# Altium schematic symbol library 正弦波振荡器电路设计.SCHLIB: 6 symbols
Pins are listed as number, name and electrical type; pins without a type are passive.

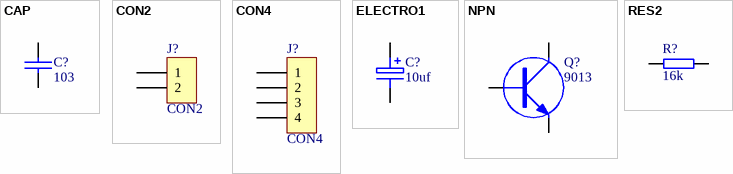
[diagram p0: symbols CAP to RES2]

## CAP
designator C?, comment 103
Capacitor
footprint RAD0.1
footprint RAD0.2
footprint R/C0805
footprint R/C1206
footprint R/C0805
pins: 1, 2

## CON2
designator J?
Connector
footprint SIP2
footprint 5.08-S201
pins: 1, 2

## CON4
designator J?
Connector
footprint SIP4
pins: 1, 2, 3, 4

## ELECTRO1
designator C?, comment 10uf
Electrolytic Capacitor
footprint RB.1/.2
footprint RB.2/.4
pins: 1, 2

## NPN
designator Q?, comment 9013
footprint TO-92C
footprint TO-92D
footprint TO-39A
pins: B, C, E

## RES2
designator R?, comment 16k
footprint AXIAL0.3
footprint AXIAL0.4
footprint AXIAL0.1
footprint AXIAL1.0
footprint R/C0805
footprint R/C0805
pins: 1, 2